# EAGLE library part XA09 (library connectors)
Connector 9 pins, alternating
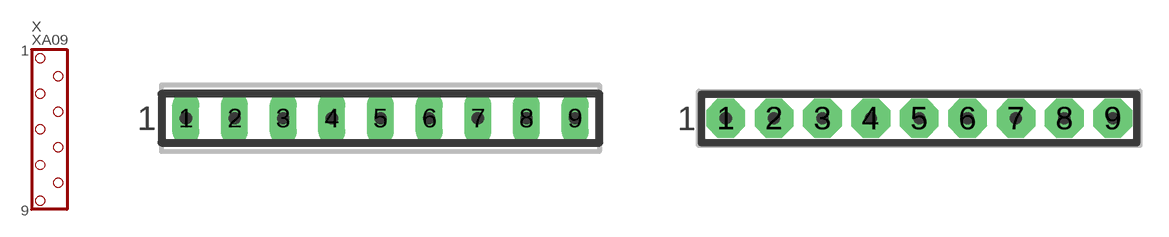
[diagram p32: symbol with the pads of X09L-SIL; footprints X09L-SIL, X09N-SIL]

Designator prefix X

## XA09L  [X09L-SIL]
1  1
2  2
3  3
4  4
5  5
6  6
7  7
8  8
9  9

## XA09N  [X09N-SIL]
Pads as for X09L-SIL

## XA09  [X09N-SIL]
Pads as for X09L-SIL

## XA09R  [X09R-SIL]
Pads as for X09L-SIL

## Footprint X09L-SIL (pad centres in mm)
Connector 9 pins, SIL, long pads
drill 0.889 pad 1.397 long: 1 -10.16,0; 2 -7.62,0; 3 -5.08,0; 4 -2.54,0; 5 0,0; 6 2.54,0; 7 5.08,0; 8 7.62,0; 9 10.16,0

## Footprint X09N-SIL (pad centres in mm)
Connector 9 pins, SIL
drill 0.889 pad 2.032 octagon: 1 -10.16,0; 2 -7.62,0; 3 -5.08,0; 4 -2.54,0; 5 0,0; 6 2.54,0; 7 5.08,0; 8 7.62,0; 9 10.16,0

## Footprint X09R-SIL (pad centres in mm)
Connector 9 pins, SIL, reduced pads
drill 0.889 pad 1.397 square: 1 -10.16,0; 2 -7.62,0; 3 -5.08,0; 4 -2.54,0; 5 0,0; 6 2.54,0; 7 5.08,0; 8 7.62,0; 9 10.16,0